# EAGLE library part MCP16321-2/TS30011-3 (library everykey)
Simple Buck regulators, 1-3A: Microchip MCP16321 (1A) / MC16322 (2A), QFN16 package Semtech TS30011 (1A) / TS30012 (2A) / TS30013 (3A), QFN16 package
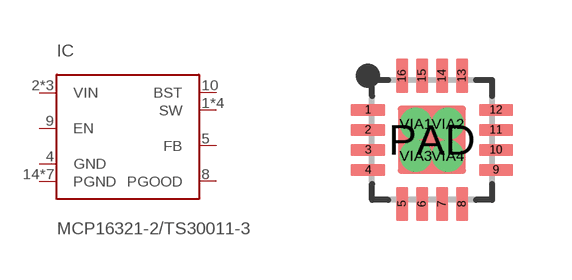
[diagram p80: symbol with the pads of QFN16-0.5-EP; footprint QFN16-0.5-EP]

Designator prefix IC

## MCP16321-2/TS30011-3-QFN16  [QFN16-0.5-EP]
1  SW
2  VIN  pwr
3  VIN  pwr
4  GND  pwr
5  FB  in
8  PGOOD  out
9  EN  in
10  BST  in
11  VIN  pwr
12  SW
13  SW
14  PGND  pwr
15  PGND  pwr
16  SW
PAD  PGND  pwr
VIA1  PGND  pwr
VIA2  PGND  pwr
VIA3  PGND  pwr
VIA4  PGND  pwr

## Footprint QFN16-0.5-EP (pad centres in mm)
QFN package 3x3mm, 16 pins, exposed pad, 0.5mm pitch
smd 0.85 x 0.3: 1 -1.6,0.75; 2 -1.6,0.25; 3 -1.6,-0.25; 4 -1.6,-0.75; 9 1.6,-0.75; 10 1.6,-0.25; 11 1.6,0.25; 12 1.6,0.75
smd 0.3 x 0.85: 5 -0.75,-1.6; 6 -0.25,-1.6; 7 0.25,-1.6; 8 0.75,-1.6; 13 0.75,1.6; 14 0.25,1.6; 15 -0.25,1.6; 16 -0.75,1.6
smd 1.7 x 1.7: PAD 0,0
drill 0.3: VIA1 -0.4,0.4; VIA2 0.4,0.4; VIA3 -0.4,-0.4; VIA4 0.4,-0.4